# EAGLE library part RETINA-EDP-30 (library LCD Connectors)
30-Pin I-PEX Cabline-CA Connector for Apple 15" (13" too?) Retina LCD Display (made by Samsung)
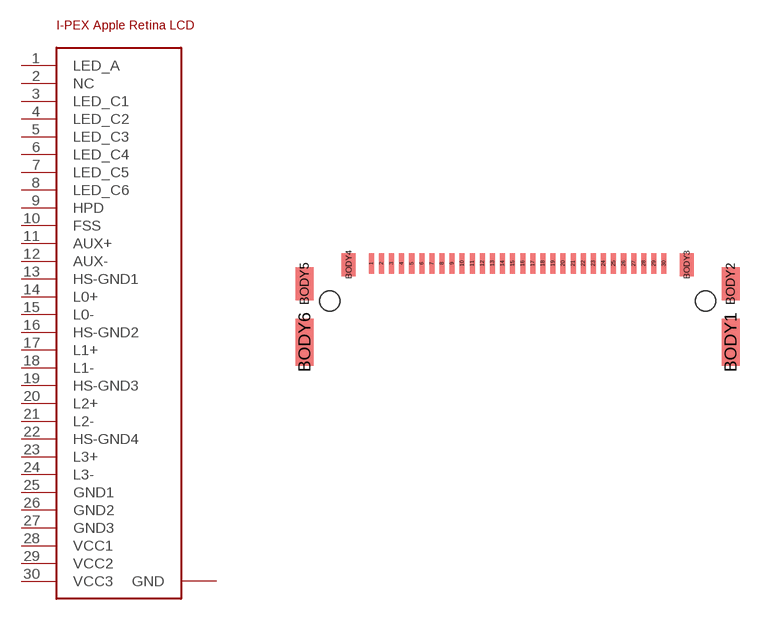
[diagram p1: symbol with the pads of I-PEX-20525-130E-02; footprint I-PEX-20525-130E-02]

Designator prefix -

## RETINA-EDP-30  [I-PEX-20525-130E-02]
1  LED_A  pwr
2  NC  nc
3  LED_C1  pwr
4  LED_C2  pwr
5  LED_C3  pwr
6  LED_C4  pwr
7  LED_C5  pwr
8  LED_C6  pwr
9  HPD
10  FSS
11  AUX+  hiz
12  AUX-  hiz
13  HS-GND1  hiz
14  L0+  hiz
15  L0-  hiz
16  HS-GND2  hiz
17  L1+  hiz
18  L1-  hiz
19  HS-GND3  hiz
20  L2+  hiz
21  L2-  hiz
22  HS-GND4  hiz
23  L3+  hiz
24  L3-  hiz
25  GND1  pwr
26  GND2  pwr
27  GND3  pwr
28  VCC1  pwr
29  VCC2  pwr
30  VCC3  pwr
BODY1  GND  pwr
BODY2  GND  pwr
BODY3  GND  pwr
BODY4  GND  pwr
BODY5  GND  pwr
BODY6  GND  pwr

## Footprint I-PEX-20525-130E-02 (pad centres in mm)
smd 0.2 x 0.8: 1 -5.8,-0.4; 2 -5.4,-0.4; 3 -5,-0.4; 4 -4.6,-0.4; 5 -4.2,-0.4; 6 -3.8,-0.4; 7 -3.4,-0.4; 8 -3,-0.4; 9 -2.6,-0.4; 10 -2.2,-0.4; 11 -1.8,-0.4; 12 -1.4,-0.4; 13 -1,-0.4; 14 -0.6,-0.4; 15 -0.2,-0.4; 16 0.2,-0.4; 17 0.6,-0.4; 18 1,-0.4; 19 1.4,-0.4; 20 1.8,-0.4; 21 2.2,-0.4; 22 2.6,-0.4; 23 3,-0.4; 24 3.4,-0.4; 25 3.8,-0.4; 26 4.2,-0.4; 27 4.6,-0.4; 28 5,-0.4; 29 5.4,-0.4; 30 5.8,-0.4
smd 0.71 x 1.85: BODY1 8.445,-3.525; BODY6 -8.445,-3.525
smd 0.71 x 1.3: BODY2 8.445,-1.2; BODY5 -8.445,-1.2
smd 0.55 x 0.9: BODY3 6.7,-0.45; BODY4 -6.7,-0.45
hole 0.8 at 7.45,-1.88
hole 0.8 at -7.45,-1.88